# Altium schematic symbol library CB2012T220K.SchLib: 1 symbol
Pins are listed as number, name and electrical type; pins without a type are passive.

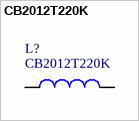
[diagram p0: symbol CB2012T220K]

## CB2012T220K
designator L?
SnapEDA_Link: https://www.snapeda.com/parts/CB2012T220K/Taiyo%20Yuden/view-part/1505221/?ref=snap; Check_prices: https://www.snapeda.com/parts/CB2012T220K/Taiyo%20Yuden/view-part/1505221/?ref=eda; Value: *
footprint *INDC2012X145N
pins: 1, 2